# EAGLE library part MS580330BA01-00 (library MS580330BA01-00)
Pressure Sensor 435.1PSI (3000kPa) Absolute 24 b 8-SMD Module Source: Datasheet <https://www.te.com/commerce/DocumentDelivery/DDEController?Action=srchrtrv&DocNm=MS5803-30BA&DocType=Data Sheet&DocLang=English>
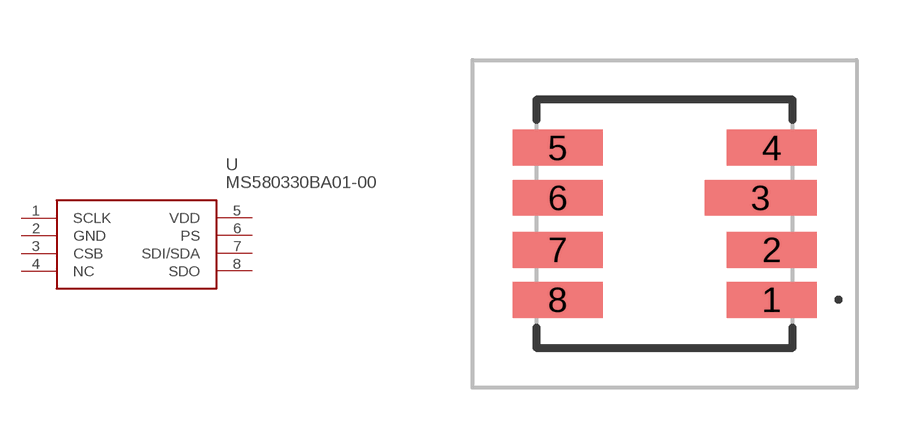
[diagram p0: symbol with the pads of MS580330BA0100; footprint MS580330BA0100]

Designator prefix U

## MS580330BA01-00 (Arrow_Part_Number: MS580330BA01-00; Arrow_Price-Stock: https://www.arrow.com/en/products/ms580330ba01-00/te-connectivity?region=europe; Description: Pressure Sensor 435.1PSI (3000kPa) Absolute 24 b 8-SMD Module; Height: 3.23mm; Manufacturer_Name: TE Connectivity; Manufacturer_Part_Number: MS580330BA01-00; Mouser_Part_Number: 824-MS580330BA01-00; Mouser_Price-Stock: https://www.mouser.co.uk/ProductDetail/Measurement-Specialties/MS580330BA01-00?qs=oFx6pF86PmCR00wWSBOdQA%3D%3D)  [MS580330BA0100]
1  SCLK
2  GND
3  CSB
4  NC  nc
5  VDD
6  PS
7  SDI/SDA
8  SDO

## Footprint MS580330BA0100 (pad centres in mm)
MS580330BA01-00-3
smd 2.25 x 0.9: 1 2.675,-1.9; 2 2.675,-0.65; 4 2.675,1.9; 5 -2.675,1.9; 6 -2.675,0.65; 7 -2.675,-0.65; 8 -2.675,-1.9
smd 2.8 x 0.9: 3 2.4,0.65